# EAGLE library part KKP_LSM (library kkp_lsm)
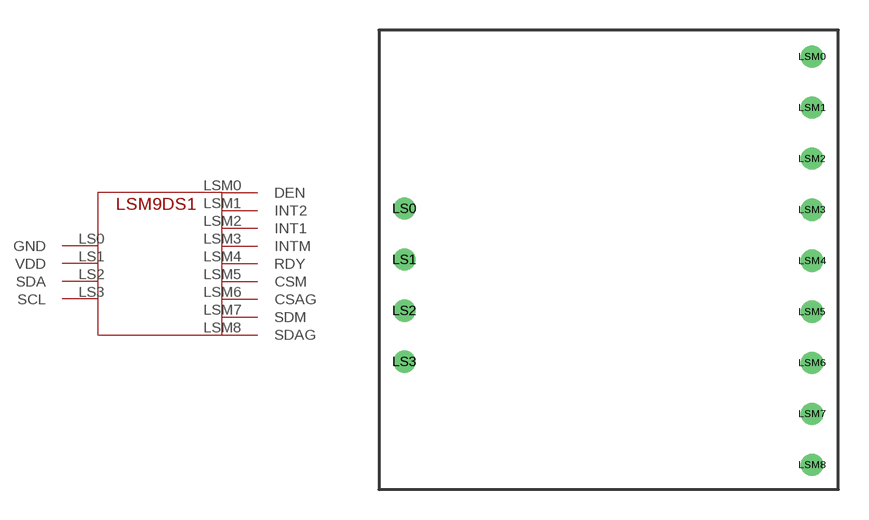
[diagram p0: symbol with the pads of KKP_CUSTOM_LSM9D-S1_FOOTPRINT; footprint KKP_CUSTOM_LSM9D-S1_FOOTPRINT]

Designator prefix -

## KKP_LSM  [KKP_CUSTOM_LSM9D-S1_FOOTPRINT]
LS0  GND
LS1  VDD
LS2  SDA
LS3  SCL
LSM0  DEN
LSM1  INT2
LSM2  INT1
LSM3  INTM
LSM4  RDY
LSM5  CSM
LSM6  CSAG
LSM7  SDM
LSM8  SDAG

## Footprint KKP_CUSTOM_LSM9D-S1_FOOTPRINT (pad centres in mm)
drill 0.6: LS0 1.27,13.98; LS1 1.27,11.44; LS2 1.27,8.9; LS3 1.27,6.36; LSM0 21.55,21.54; LSM1 21.55,19; LSM2 21.55,16.46; LSM3 21.55,13.92; LSM4 21.55,11.38; LSM5 21.55,8.84; LSM6 21.55,6.3; LSM7 21.55,3.76; LSM8 21.55,1.22